# Altium footprint library 10uFCAPC3216X100N.PcbLib: 1 footprints
Each footprint in its own frame and in the unit in brackets; x right, y up, seen from the top. Pads: shape width x height; smd on the part's side, far side on the other; paste and mask are expansions set on the pad; w line width, h text height; cw(c..) or ccw(c..) is an arc to the next point about the centre after c.
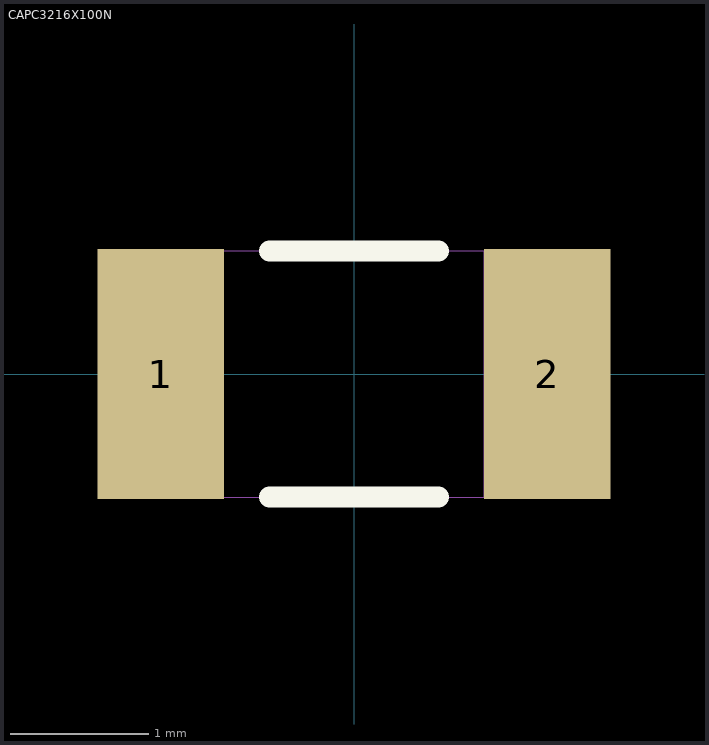
[diagram p0: the footprint, top view; thin cyan lines are the x and y axes]

## CAPC3216X100N [mil]
pads (2):
  rect 36x71 smd: 1(-55,0) 2(55,0)
Top Overlay:
  lines w6: -24,-35 24,-35 ; -24,35 24,35
Mechanical 1:
  lines w0: -37,-35 37,-35 ; -37,-35 -67,-35 -67,35 -37,35 ; -37,-35 -37,35 ; -37,35 37,35 ; 37,-35 67,-35 67,35 37,35 ; 37,-35 37,35